# Altium footprint library PLD2-20_SD87340-20.PcbLib: 1 footprints
Each footprint in its own frame and in the unit in brackets; x right, y up, seen from the top. Pads: shape width x height; smd on the part's side, far side on the other; paste and mask are expansions set on the pad; w line width, h text height; cw(c..) or ccw(c..) is an arc to the next point about the centre after c.
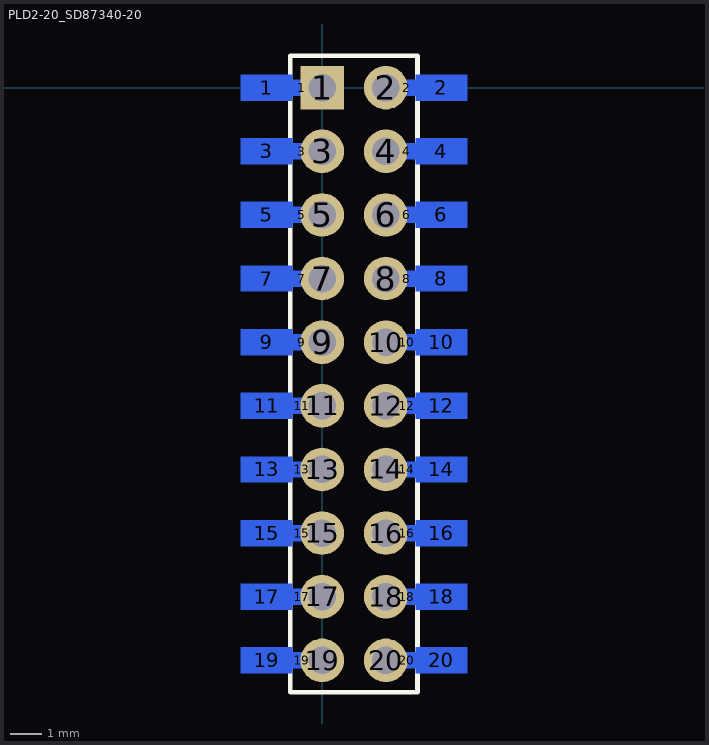
[diagram p0: the footprint, top view; thin cyan lines are the x and y axes]

## PLD2-20_SD87340-20 [mm]
pads (60):
  rect 1.626x0.813 smd far side: 1(-1.75,0) 2(3.75,0) 3(-1.75,-2) 4(3.75,-2) 5(-1.75,-4) 6(3.75,-4) 7(-1.75,-6) 8(3.75,-6) 9(-1.75,-8) 10(3.75,-8) 11(-1.75,-10) 12(3.75,-10) 13(-1.75,-12) 14(3.75,-12) 15(-1.75,-14) 16(3.75,-14) 17(-1.75,-16) 18(3.75,-16) 19(-1.75,-18) 20(3.75,-18)
  rect 1.5x0.5 smd far side: 1(-0.65,0) 2(2.65,0) 3(-0.65,-2) 4(2.65,-2) 5(-0.65,-4) 6(2.65,-4) 7(-0.65,-6) 8(2.65,-6) 9(-0.65,-8) 10(2.65,-8) 11(-0.65,-10) 12(2.65,-10) 13(-0.65,-12) 14(2.65,-12) 15(-0.65,-14) 16(2.65,-14) 17(-0.65,-16) 18(2.65,-16) 19(-0.65,-18) 20(2.65,-18)
  rect 1.372x1.372 hole 0.864: 1(0,0)
  round 1.372 hole 0.864: 2(2,0) 3(0,-2) 4(2,-2) 5(0,-4) 6(2,-4) 7(0,-6) 8(2,-6) 9(0,-8) 10(2,-8) 11(0,-10) 12(2,-10) 13(0,-12) 14(2,-12) 15(0,-14) 16(2,-14) 17(0,-16) 18(2,-16) 19(0,-18) 20(2,-18)
Top Overlay:
  lines w0.15: -1,-19 3,-19 3,1 -1,1 -1,-19
3D body "SD87340-20.STEP": height 2.1, standoff 0, extent -2.05,-19 3.95,1
3D body "PLD2-20.STEP": height 5.9, standoff -2.8, extent -1,-18.9 3,0.9